# EAGLE library part MAX16910 (library rfops)
MAX16910 Regulator
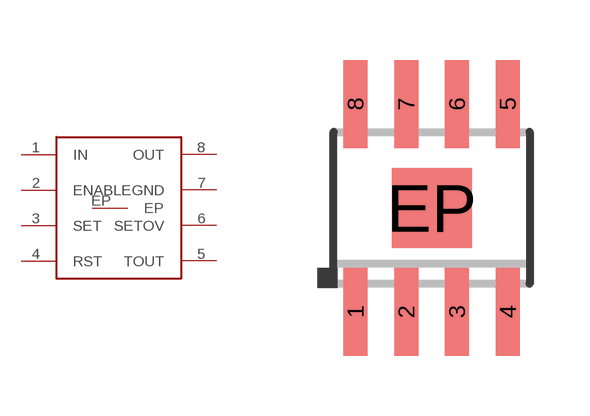
[diagram p20: symbol with the pads of SO-08; footprint SO-08]

Designator prefix IC

## MAX16910  [SO-08]
1  IN  in
2  ENABLE  in
3  SET  in
4  RST  in
5  TOUT  out
6  SETOV  in
7  GND  pwr
8  OUT  out
EP  EP  pwr

## Footprint SO-08 (pad centres in mm)
Small Outline Narrow Plastic Gull Wing 150-mil body, package type SN
smd 0.6 x 2.2: 1 -1.905,-2.6; 2 -0.635,-2.6; 3 0.635,-2.6; 4 1.905,-2.6; 5 1.905,2.6; 6 0.635,2.6; 7 -0.635,2.6; 8 -1.905,2.6
smd 2 x 2: EP 0,0